# Altium schematic symbol library Main Board V1.1.SCHLIB: 37 symbols
Pins are listed as number, name and electrical type; pins without a type are passive.

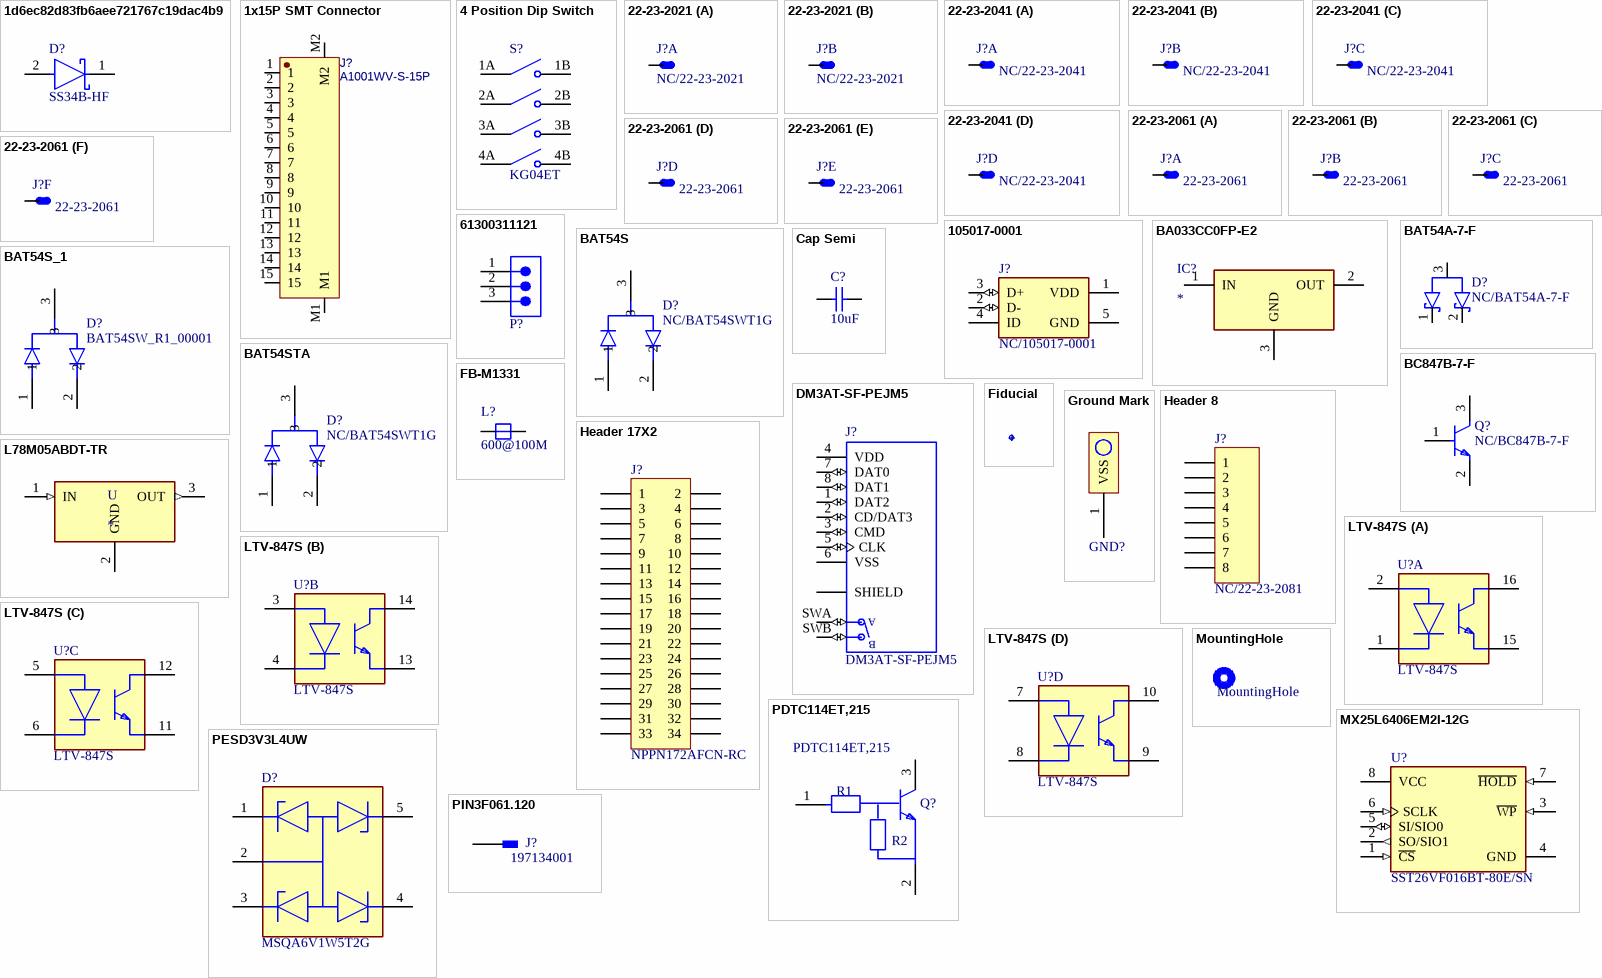
[diagram p0: symbols 1d6ec82d83fb6aee721767c19dac4b9 to PIN3F061.120]

## 1d6ec82d83fb6aee721767c19dac4b9
designator D?, comment SS34B-HF
DIODE SCHOTTKY 40V 3A DO214AB
footprint FP-95402-MFG
pins: 1 C, 2 A

## 1x15P SMT Connector
designator J?, comment A1001WV-S-15P
BOM_Manufacturer: XKB Enterprise; BOM_Manufacturer Part: X2016WRS-10-9TSW; Contributor: LCSC; BOM_Supplier: LCSC; BOM_Supplier Part: C519176; BOM_JLCPCB Part Class: Extended Part; spicePre: C; spiceSymbolName: X2016WRS-10-9TSW
footprint CONN-SMD_X2016WRS-10-9TSW
footprint SH1.0 1X15P SMT VERTICAL
pins: 1, 2, 3, 4, 5, 6, 7, 8, 9, 10, 11, 12, 13, 14, 15, M1, M2

## 4 Position Dip Switch
designator S?, comment KG04ET
STANDARD DIP SWITCH, 4 POSITIONS; MP: DS01-254-S-04BE; MF: CUI Devices; Price: None; Availability: Bad; Value: *; Check_prices: https://www.snapeda.com/parts/DS01-254-S-04BE/CUI%20Devices/view-part/4467369/?ref=eda; CUI_purchase_URL: https://www.cuidevices.com/product/switches/dip-switches/ds01-254-series?utm_source=snapeda.com&utm_medium=referral&utm_campaign=snapedaBOM; SnapEDA_Link: https://www.snapeda.com/parts/DS01-254-S-04BE/CUI%20Devices/view-part/4467369/?ref=snap; Package: None
footprint SW_DS01-254-S-04BE
pins: 1A COM1, 1B NO1, 2A COM2, 2B NO2, 3A COM3, 3B NO3, 4A COM4, 4B NO4

## 22-23-2021
designator J?, comment NC/22-23-2021
Connector Header Through Hole 2 position 0.100 (2.54mm); MP: 22232021; MF: Molex; Package: None; Check_prices: https://www.snapeda.com/parts/22232021/Molex/view-part/4299878/?ref=eda; Availability: Unavailable; Price: None; Value: *; SnapEDA_Link: https://www.snapeda.com/parts/22232021/Molex/view-part/4299878/?ref=snap
footprint 22-23-2021
part A pins: 1 S
part B pins: 2 S

## 22-23-2041
designator J?, comment NC/22-23-2041
Connector Header Through Hole 4 position 0.100 (2.54mm); MF: Molex; Check_prices: https://www.snapeda.com/parts/22-23-2041/Molex/view-part/438493/?ref=eda; Price: None; Purchase-URL: https://pricing.snapeda.com/search/part/22-23-2041/?ref=eda; Availability: Warning; Package: None; SnapEDA_Link: https://www.snapeda.com/parts/22-23-2041/Molex/view-part/438493/?ref=snap; MP: 22-23-2041; Value: *
footprint 22-23-2041
part A pins: 1 S
part B pins: 2 S
part C pins: 3 S
part D pins: 4 S

## 22-23-2061
designator J?
Connector Header Through Hole 6 position 0.100 (2.54mm); MF: Molex; MP: 22-23-2061; Value: *; Check_prices: https://www.snapeda.com/parts/22-23-2061/Molex/view-part/472001/?ref=eda; Package: None; Price: None; SnapEDA_Link: https://www.snapeda.com/parts/22-23-2061/Molex/view-part/472001/?ref=snap
footprint 22-23-2061
part A pins: 1 S
part B pins: 2 S
part C pins: 3 S
part D pins: 4 S
part E pins: 5 S
part F pins: 6 S

## 105017-0001
designator J?, comment NC/105017-0001
MF: Molex; Price: None; Package: None; MP: 105017-0001; Value: *; Availability: Unavailable; SnapEDA_Link: https://www.snapeda.com/parts/105017-0001/Molex/view-part/281210/?ref=snap
footprint MOLEX_105017-0001
pins: 1 VDD (power), 2 D- (io), 3 D+ (io), 4 ID, 5 GND (power)

## 61300311121
designator P?  (value not drawn)
WR-PHD Pin Header, THT, Vertical, pitch 2.54mm, 1 Row, 3P; Manufacturer: Wurth Elektronik; Contact Resistance: 20mΩ; Rated Current: 3A; Working Voltage: 250V; Withstanding Voltage: 500V; ComponentLink1Description: Website Link; ComponentLink1URL: https://www.we-online.com/redexpert/article/61300311121?ad; ComponentLink2Description: Datasheet Link; ComponentLink2URL: https://www.we-online.com/redexpert/spec/61300311121?ad; Manufacturer Part Number: 61300311121; Category: Board-to-Board Connectors; Match Code: WR-PHD; Mount: Through Hole; Operating Temperature Max: 105°C; Operating Temperature Min: -40°C; Packaging: Bag; Gender: Pin Header; Number of Pins: 3; Number of Rows: 1; Orientation: Vertical; Pitch: 2.54mm
footprint 61300311121
pins: 1, 2, 3

## BA033CC0FP-E2
designator IC?
Integrated Circuit; Manufacturer_Name: ROHM Semiconductor; Manufacturer_Part_Number: BA033CC0FP-E2; Description: LDO regulator,3.3V,1A,TO252; Datasheet Link: http://rohmfs.rohm.com/en/products/databook/datasheet/ic/power/linear_regulator/baxxdd0-e.pdf; Mouser Part Number: 755-BA033CC0FP-E2; Mouser Price/Stock: https://www.mouser.co.uk/ProductDetail/ROHM-Semiconductor/BA033CC0FP-E2?qs=4kLU8WoGk0vZtk7EcED04A%3D%3D; Arrow Part Number: BA033CC0FP-E2; Arrow Price/Stock: https://www.arrow.com/en/products/ba033cc0fp-e2/rohm-semiconductor?region=nac
footprint ROHM_TO-252-3
pins: 1 IN, 2 OUT, 3 GND

## BAT54A-7-F
designator D?, comment NC/BAT54A-7-F
Diode Array 1 Pair Common Anode Schottky 30V 200mA (DC) Surface Mount TO-236-3, SC-59, SOT-23-3; MF: Diodes Inc.; MP: BAT54A-7-F; Package: Custom Package Diodes Inc.; Purchase-URL: https://pricing.snapeda.com/search/part/BAT54A-7-F/?ref=eda; Check_prices: https://www.snapeda.com/parts/BAT54A-7-F/Diodes%20Inc./view-part/120459/?ref=eda; SnapEDA_Link: https://www.snapeda.com/parts/BAT54A-7-F/Diodes%20Inc./view-part/120459/?ref=snap; Availability: Good; Value: *; Price: None
footprint ONSC-SOT-323-3-419-04_V (SOT23, 3-Leads, Body 2x1.25mm, Pitch 0.65mm)
pins: 1 C1, 2 C2, 3 CA

## BAT54S
designator D?, comment NC/BAT54SWT1G
Diode Array 1 Pair Series Connection Schottky 30V 200mA Surface Mount TO-236-3, SC-59, SOT-23-3; Value: BAT54S; MF: ON Semiconductor; Price: None; Package: SOT-23-3 ON Semiconductor; Availability: Unavailable; SnapEDA_Link: https://www.snapeda.com/parts/BAT54S/ON%20Semiconductor/view-part/1737355/?ref=snap; MP: BAT54S
footprint ONSC-SOT-323-3-419-04_V (SOT23, 3-Leads, Body 2x1.25mm, Pitch 0.65mm)
pins: 1, 2, 3

## BAT54S_1
designator D?, comment BAT54SW_R1_00001
Diode Array 1 Pair Series Connection Schottky 30V 200mA Surface Mount TO-236-3, SC-59, SOT-23-3; MF: ON Semiconductor; MP: BAT54S; Price: None; Value: *; Package: SOT-23-3 ON Semiconductor; Availability: Unavailable; SnapEDA_Link: https://www.snapeda.com/parts/BAT54S/ON%20Semiconductor/view-part/1737355/?ref=snap
footprint ONSC-SOT-323-3-419-04_V (SOT23, 3-Leads, Body 2x1.25mm, Pitch 0.65mm)
pins: 1, 2, 3

## BAT54STA
designator D?, comment NC/BAT54SWT1G
Diode Array 1 Pair Series Connection Schottky 30V 200mA _DC_ Surface Mount TO-236-3, SC-59, SOT-23-3; MP: BAT54STA; MF: Diodes Inc.; Package: SOT-23 Diodes Inc.; Digi-Key_Part_Number: BAT54SCT-ND; SnapEDA_Link: https://www.snapeda.com/parts/BAT54STA/Diodes%20Inc./view-part/367987/?ref=snap; Value: *; Digi-Key_Purchase_URL: https://www.digikey.ru/product-detail/en/diodes-incorporated/BAT54STA/BAT54SCT-ND/243050?utm_source=snapeda&utm_medium=aggregator&utm_campaign=symbol
footprint ONSC-SOT-323-3-419-04_V (SOT23, 3-Leads, Body 2x1.25mm, Pitch 0.65mm)
pins: 1, 2, 3

## BC847B-7-F
designator Q?, comment NC/BC847B-7-F
footprint SOT95P230X110-3N
pins: 1 B, 2 E, 3 C

## Cap Semi
designator C?, comment 10uF
CAP CER 10UF 50V X5R 1206; Published: 8-Jun-2000; LatestRevisionDate: 29-May-2009; LatestRevisionNote: IPC-7351 Footprint Added.; PackageReference: C1206; Publisher: Altium Limited; PackageDescription: Chip Capacitor; Value: 10uF 50V
simulation model CAP (Semiconductor Capacitor)
signal-integrity model Cap Semi
footprint C_1206_3216Metric
pins: 1, 2

## DM3AT-SF-PEJM5
designator J?
CONN MICRO SD CARD PUSH-PUSH R/A; MF: Hirose; Price: None; SnapEDA_Link: https://www.snapeda.com/parts/DM3AT-SF-PEJM5/Hirose%20Electric%20Co%20Ltd/view-part/1223877/?ref=snap; Availability: Unavailable; MP: DM3AT-SF-PEJM5; Package: None; Value: *
footprint HRS_DM3AT-SF-PEJM5
pins: 1 DAT2 (io), 2 CD/DAT3 (io), 3 CMD (io), 4 VDD (power), 5 CLK (io), 6 VSS (power), 7 DAT0 (io), 8 DAT1 (io), P1 SHIELD, P2 SHIELD, P3 SHIELD, P4 SHIELD, SWA A (io), SWB B (io)

## FB-M1331
designator L?, comment 600@100M
BBPY00160808601Y00; GateName_1: G$1; SymbolName_1: FB; DeviceName: -M1331; LibraryName: inductors-jwmiller; DeviceSetName: FB
footprint L_0603_1608Metric
pins: 1, 2

## Fiducial
designator Fid?, comment Fiducial mark  (value not drawn)  (no BOM)
Part Number: Fid-Mark; Artikkelnr Noca: N.A.; Manufacturer: *; Manufacturer Part Number: *; Datasheet: *; LatestRevisionDate: 2009-12-12; Pin Count: 1; Publisher: Nordic Semiconductor; Published: 2009-12-12; Value: *; Note: *; Supplier: *; Supplier part number: *; 2nd source Supplier: *; 2nd source part number: *; Footprint Doc: Fiducial; Artikkelnr Simpro: N.A.
footprint Fiducial
footprint Fiducial_1mm_Mask2mm

## Ground Mark
designator GND?  (value not drawn)
footprint 1X01
pins: 1 VSS

## Header 8
designator J?, comment NC/22-23-2081
Header, 8-Pin; LatestRevisionDate: 17-Jul-2002; LatestRevisionNote: Re-released for DXP Platform.; Publisher: Altium Limited
signal-integrity model Connector
footprint 22-23-2081
pins: 1, 2, 3, 4, 5, 6, 7, 8

## Header 17X2
designator J?, comment NPPN172AFCN-RC
Header, 17-Pin, Dual row; LatestRevisionDate: 17-Jul-2002; LatestRevisionNote: Re-released for DXP Platform.; Publisher: Altium Limited
signal-integrity model Connector
footprint HDR-TH_34P-P2.00-V-M-R2-C17-S2.00
pins: 1, 2, 3, 4, 5, 6, 7, 8, 9, 10, 11, 12, 13, 14, 15, 16, 17, 18, 19, 20, 21, 22, 23, 24, 25, 26, 27, 28, 29, 30, 31, 32, 33, 34

## L78M05ABDT-TR
designator U
Linear Voltage Regulator IC 1 Output 500mA DPAK; MF: STMicroelectronics; MP: L78M05ABDT-TR; Package: TO-252 STMicroelectronics; Price: None; Value: *; SnapEDA_Link: https://www.snapeda.com/parts/L78M05ABDT-TR/STMicroelectronics/view-part/8115/?ref=snap; DigiKey-Purchase-URL: https://snapeda.com/shop?store=DigiKey&id=8115; Arrow_Electronics-Purchase-URL: https://snapeda.com/shop?store=Arrow+Electronics&id=8115; Availability: Unavailable
footprint VREG_L78M05ABDT-TR
pins: 1 IN (in), 2 GND (power), 3 OUT (out)

## LTV-847S
designator U?
OPTOISOLTR 5KV 4CH TRANS 16-SMD
footprint SMD-16 19.84X7.62MM P2.54mm
part A pins: 1 1 Anode, 2 1 Cathode, 15 E, 16 C
part B pins: 3 2 Anode, 4 2 Cathode, 13 E, 14 C
part C pins: 5 3 Anode, 6 3 Cathode, 11 E, 12 C
part D pins: 7 4 Anode, 8 4 Cathode, 9 E, 10 C

## MountingHole
designator H?
footprint 3,0-PAD

## MX25L6406EM2I-12G
designator U?, comment SST26VF016BT-80E/SN
IC FLASH 16MBIT SPI/QUAD 8SOIC
footprint SOIC-8
pins: 1 ~{CS} (in), 2 SO/SIO1 (out), 3 ~{WP} (in), 4 GND (power), 5 SI/SIO0 (io), 6 SCLK (in), 7 ~{HOLD} (in), 8 VCC (power)

## PDTC114ET,215
designator Q?
TRANS PREBIAS NPN 250MW TO236AB
footprint SOT95P230X110-3N
pins: 1 input(base), 2 GND(emitter), 3 output(collector)
text: R1; R2

## PESD3V3L4UW
designator D?, comment MSQA6V1W5T2G
Low capacitance unidirectional quadruple ESD protection diode arrays
footprint SOT95P280X145-5N
pins: 1 1 cathode, 2 common anode, 3 2 cathode, 4 3 cathode, 5 5 cathode

## PIN3F061.120
designator J?, comment 197134001
Flachstecker Typ tyco/Electronics/AMP   Printed Circuit Board Tabs Source: http://www.buerklin.com; GateName_1: -1; SymbolName_1: PIN; DeviceName: F061.120; DeviceSetName: PIN3; LibraryName: con-faston; MF: MF; MPN: MPN; OC_FARNELL: unknown; OC_NEWARK: unknown
footprint Crimp male 90 degree 0.25(6.35mm) (F061.120)
pins: 1

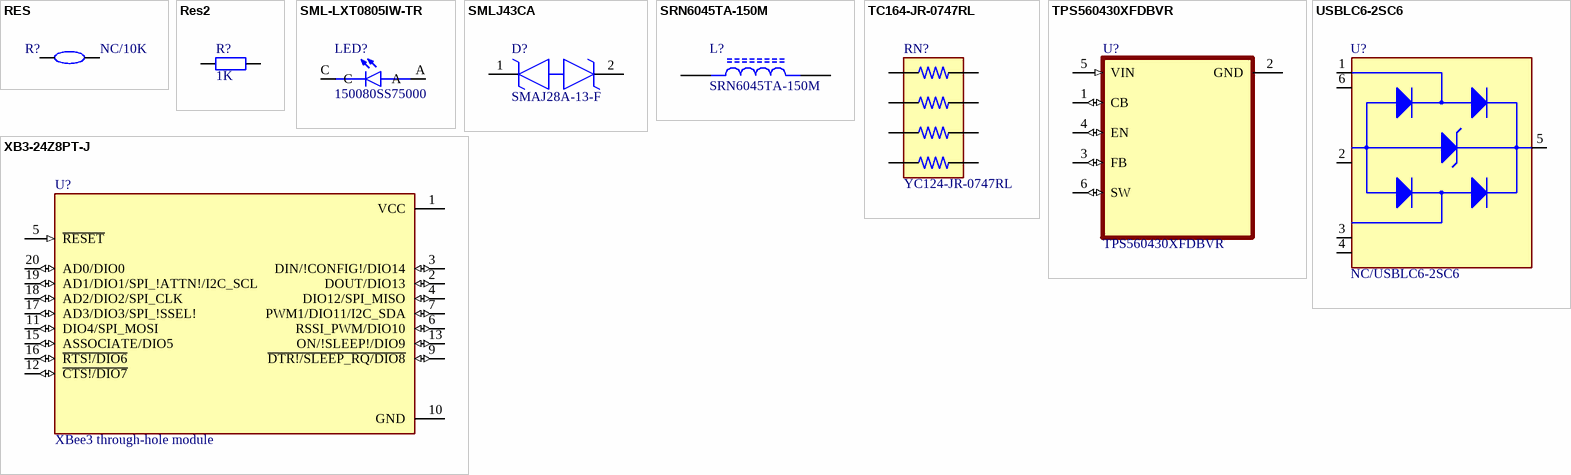
[diagram p1: symbols RES to XB3-24Z8PT-J]

## RES
designator R?, comment NC/10K
RC0805FR-071KL; 名称: 贴片电阻
footprint R_0603_1608Metric
pins: 1, 2
2 alternate drawings of the same symbol

## Res2
designator R?, comment 1K
RES 1K OHM 5% 1/10W 0603; Published: 8-Jun-2000; LatestRevisionDate: 17-Jul-2002; LatestRevisionNote: Re-released for DXP Platform.; PackageReference: AXIAL-0.4; Publisher: Altium Limited; PackageDescription: Axial Device, Thru-Hole; 2 Leads; 0.4 in Pin Spacing; Value: 1K
simulation model RESISTOR (Resistor)
signal-integrity model Res
footprint R_0603_1608Metric
pins: 1, 2

## SML-LXT0805IW-TR
designator LED?, comment 150080SS75000
LED RED CLEAR 0805 SMD; MF: Lumex Opto/Components; MP: SML-LXT0805IW-TR; Value: *; Package: 0805 Lumex; Price: None; Availability: Unavailable; SnapEDA_Link: https://www.snapeda.com/parts/SML-LXT0805IW-TR/Lumex%20Opto/Components%20Inc./view-part/340416/?ref=snap
footprint LEDC2012X120N
pins: A, C

## SMLJ43CA
designator D?, comment SMAJ28A-13-F
TVS Diode (Bi-directional); Manufacturer_Name: Bourns; Manufacturer_Part_Number: SMLJ43CA; Datasheet Link: https://www.arrow.com/en/products/smlj43ca/bourns; Height: 2.62mm; Mouser Part Number: 652-SMLJ43CA; Mouser Price/Stock: https://www.mouser.co.uk/ProductDetail/Bourns/SMLJ43CA?qs=d7fLapxX37H4ipm6c23cIQ%3D%3D; Arrow Part Number: SMLJ43CA; Arrow Price/Stock: https://www.arrow.com/en/products/smlj43ca/bourns
footprint DIONM7959X262N
pins: 1, 2

## SRN6045TA-150M
designator L?
FIXED IND 47UH 1.6A 200 MOHM SMD; Package: None; Price: None; Value: *; MP: SRN6045TA-150M; Availability: Unavailable
footprint IND_SRN6045TA-150M
pins: 1, 2

## TC164-JR-0747RL
designator RN?, comment YC124-JR-0747RL
RES ARRAY 4 RES 47 OHM 0804; MF: Yageo; MP: TC164-JR-0747RL; Value: *; Availability: Warning; Package: 1206 Yageo; SnapEDA_Link: https://www.snapeda.com/parts/TC164-JR-0747RL/Yageo/view-part/499156/?ref=snap; Price: None; Check_prices: https://www.snapeda.com/parts/TC164-JR-0747RL/Yageo/view-part/499156/?ref=eda; Purchase-URL: https://pricing.snapeda.com/search/part/TC164-JR-0747RL/?ref=eda
footprint RESCAXS50P200X100X55-8N
pins: 1, 2, 3, 4, 5, 6, 7, 8

## TPS560430XFDBVR
designator U?
IC REG BUCK PWM 600MA SOT23-6; Package: None; Price: None; Value: *; MP: TPS560430XFDBVR; Availability: Unavailable
footprint SOT95P280X145-6N
pins: 1 CB (io), 2 GND (power), 3 FB (io), 4 EN (io), 5 VIN (in), 6 SW (io)

## USBLC6-2SC6
designator U?, comment NC/USBLC6-2SC6
MF: STMicroelectronics; Package: SOT-23-6 STMicroelectronics; Availability: Unavailable; Value: *; MP: USBLC6-2SC6; SnapEDA_Link: https://www.snapeda.com/parts/USBLC6-2SC6/STMicroelectronics/view-part/231887/?ref=snap; Price: None
footprint SOT95P280X145-6N
pins: 1 I/O1 (io), 2 GND (power), 3 I/O2 (io), 4 I/O2 (io), 5 VBUS (power), 6 I/O1 (io)

## XB3-24Z8PT-J
designator U?, comment XBee3 through-hole module
RECEPTACLE STRIP 10P 2.0MM PITCH; MP: XB3-24Z8PT-J; MF: Digi International; Value: *; Digi-Key_Purchase_URL: https://www.digikey.ch/product-detail/en/digi/XB3-24Z8PT-J/602-2188-ND/8130934?utm_source=snapeda&utm_medium=aggregator&utm_campaign=symbol; Package: Module Digi International; SnapEDA_Link: https://www.snapeda.com/parts/XB3-24Z8PT-J/Digi%20International/view-part/2751315/?ref=snap; Digi-Key_Part_Number: 602-2188-ND
footprint XB3-24Z8PT-J
pins: 1 VCC (power), 2 DOUT/DIO13 (io), 3 DIN/!CONFIG!/DIO14 (io), 4 DIO12/SPI_MISO (io), 5 ~{RESET} (in), 6 RSSI_PWM/DIO10 (io), 7 PWM1/DIO11/I2C_SDA (io), 9 ~{DTR!/SLEEP_RQ/DIO8} (io), 10 GND (power), 11 DIO4/SPI_MOSI (io), 12 ~{CTS!/DIO7} (io), 13 ON/!SLEEP!/DIO9 (io), 15 ASSOCIATE/DIO5 (io), 16 ~{RTS!/DIO6} (io), 17 AD3/DIO3/SPI_!SSEL! (io), 18 AD2/DIO2/SPI_CLK (io), 19 AD1/DIO1/SPI_!ATTN!/I2C_SCL (io), 20 AD0/DIO0 (io)